# EAGLE library part 750315242 (library WE-OLTI)
WE-OLTI Offline Flyback Transformers Characteristics Nominal input voltage: 85–265 VAC (120–375 VDC) Small size Low leakage inductance Multiple-output options Operating temperature: −40 °C to +125 °C Isolation Voltage: 2 kVAC to 5 kVAC Options for fixed frequency or quasi-resonant mode operation Most products meet reinforced insulation Applications Industrial controls USB chargers Utility metering devices Process controls Factory automation Security systems Garage door opener auxiliary supplies Home appliances Especially designed for several ICs from Texas Instruments Details see: www.we-online.com/en/components/products/WE-OLTI Created by Ella 2025-02-06 2025 (C) Würth Elektronik
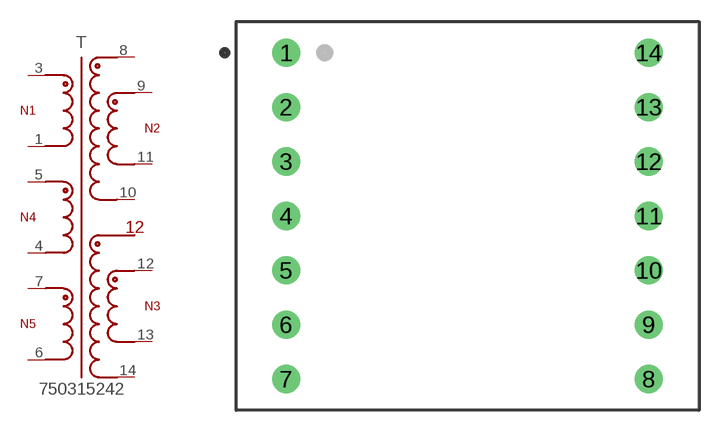
[diagram p17: symbol with the pads of WE-OLTI_EE25/13/7_L27.05W32.25H22.86; footprint WE-OLTI_EE25/13/7_L27.05W32.25H22.86]

Designator prefix T

## 750315242 (AUXILIARY_VOLTAGE_1: 20 V; AUXILIARY_VOLTAGE_2: 16 V; CATEGORY: Transformers; DATASHEET: https://www.we-online.com/redexpert/spec/750315242?ae; HEIGHT: 22.86 mm; INDUCTANCE: 600 uH; INPUT_VOLTAGE: 141 - 283 V (AC); INSULATION_TEST_VOLTAGE: 3000 V (AC); LENGTH: 27.05 mm; MANUFACTURER: Würth Elektronik; MOUNT: THT; MPN: 750315242; OUTPUT_CURRENT_1: 1800 mA; OUTPUT_CURRENT_2: 1800 mA; OUTPUT_VOLTAGE_1: 12 V; OUTPUT_VOLTAGE_2: 12 V; SATURATION_CURRENT: 2.3 A; SIZE: EE25/13/7; SWITCHING-FREQUENCY: 45kHz; TURNS_RATIO: 12:1:1:1.67:1.33; VALUE: 600 uH; WIDTH: 32.25 mm)  [WE-OLTI_EE25/13/7_L27.05W32.25H22.86]
1  1  pas
3  3  pas
4  4  pas
5  5  pas
6  6  pas
7  7  pas
8  8  pas
9  9  pas
10  10  pas
11  11  pas
12  12  pas
13  13  pas
14  14  pas

## Footprint WE-OLTI_EE25/13/7_L27.05W32.25H22.86 (pad centres in mm)
WE-OLTI Offline Flyback Transformers Size:EE25/13/7,THT,14pins LXWXH=27.05X32.25X22.86mm Bobbin: 070-5644
drill 1.32: 1 -12.7,11.43; 2 -12.7,7.62; 3 -12.7,3.81; 4 -12.7,0; 5 -12.7,-3.81; 6 -12.7,-7.62; 7 -12.7,-11.43; 8 12.7,-11.43; 9 12.7,-7.62; 10 12.7,-3.81; 11 12.7,0; 12 12.7,3.81; 13 12.7,7.62; 14 12.7,11.43